# Altium integrated library 530480710.IntLib: 1 symbol
Pins are listed as number, name and electrical type; pins without a type are passive.

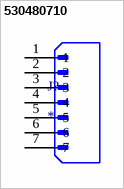
[diagram p0: symbol 530480710]

## 530480710
designator J?
MP: 530480710; Package: None; Price: None; Value: *; Availability: Unavailable
footprint MOLEX_530480710
pins: 1, 2, 3, 4, 5, 6, 7